# Altium schematic symbol library HidroanaSCHLib1.SchLib: 93 symbols
Pins are listed as number, name and electrical type; pins without a type are passive.

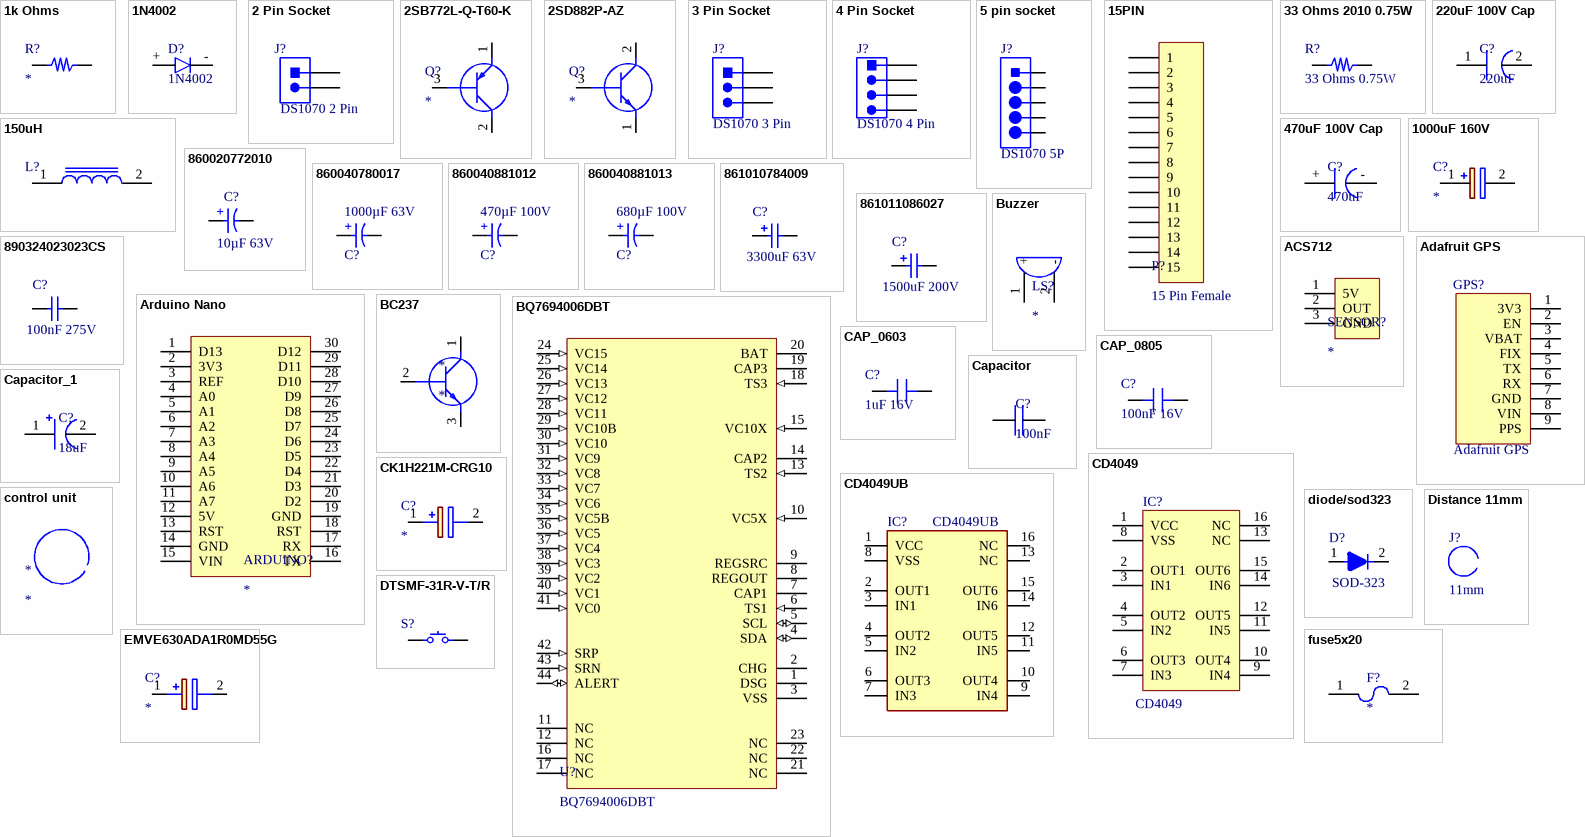
[diagram p0: symbols 1k Ohms to fuse5x20]

## 1k Ohms
designator R?
footprint 0603
pins: 1, 2

## 1N4002
designator D?
footprint 1N4002
pins: +, -

## 2 Pin Socket
designator J?, comment DS1070 2 Pin
2pin Socket 100mil
footprint 2PIN_100mil
pins: 1, 2

## 2SB772L-Q-T60-K
designator Q?
Transistor BJT PNP; Manufacturer_Name: Renesas Electronics; Manufacturer_Part_Number: 2SB772-AZ; Datasheet Link: https://docs.rs-online.com/7cfa/0900766b811ae1f4.pdf; Height: 2.8mm; Mouser Part Number: N/A; Mouser Price/Stock: https://www.mouser.co.uk/ProductDetail/Renesas-Electronics/2SB772-AZ?qs=pUKx8fyJudC3Nl1y55BjMA%3D%3D
footprint TO230P280X850X1470-3P
pins: 1 E, 2 C, 3 B

## 2SD882P-AZ
designator Q?
Transistor BJT NPN; Manufacturer_Name: Renesas Electronics; Manufacturer_Part_Number: 2SD882-AZ; Height: 2.8mm
footprint TO230P280X850X1470-3P
pins: 1 E, 2 C, 3 B

## 3 Pin Socket
designator J?, comment DS1070 3 Pin
3 Pin 100mm Connector; ComponentLink1Description: Özdisan; ComponentLink1URL: https://www.ozdisan.com/konnektor-ve-baglanti-elemanlari/konnektor-cesitleri/pcb-konnektorler/DS1070-3MVV6; Part: DS1070 3 Pin
footprint 3pin_100mil
pins: 1, 2, 3

## 4 Pin Socket
designator J?, comment DS1070 4 Pin
2pin Socket 100mil
footprint 4PIN_100MIL
pins: 1, 2, 3, 4

## 5 pin socket
designator J?, comment DS1070 5P
footprint 5PIN
pins: 1 4, 2 5, 3 6, 4 7, 5 8

## 15PIN
designator P?, comment 15 Pin Female
footprint 15PIN
pins: 1, 2, 3, 4, 5, 6, 7, 8, 9, 10, 11, 12, 13, 14, 15

## 33 Ohms 2010 0.75W
designator R?, comment 33 Ohms 0.75W
201007J0330T4E - RES.(5025) 2010 33 Ohms 5% 3/4W-S 200PPM; ComponentLink1Description: New link; ComponentLink1URL: https://www.ozdisan.com/pasif-komponentler/direncler/smt-smd-ve-cip-direncler/201007J0330T4E; Value: 33 Ohms 0.75W
footprint 2010
pins: 1, 2

## 150uH
designator L?
Inductor Iron Core Yellow-White
footprint 42X60MMTOROID
pins: 1, 2

## 220uF 100V Cap
designator C?, comment 220uF
footprint 220uF 100V Cap
pins: 1, 2

## 470uF 100V Cap
designator C?, comment 470uF
Electrolytic  Cap 470uF 100V
footprint 470uF 100V Cap
pins: +, -

## 1000uF 160V
designator C?
Capacitor Polarised; Manufacturer_Name: Aihua Group; Manufacturer_Part_Number: ELH2GM561Q60KT; Datasheet Link: https://lcsc.com/product-detail/Aluminum-Electrolytic-Capacitors-Leaded_560uF-20-400V_C106433.html; Height: 62mm
footprint CAPE-P15XD30XH62MM
pins: 1 +, 2 -

## 860020772010
designator C?, comment 10µF 63V
WCAP-ATG5 Aluminum Electrolytic Capacitor, Radial, THT, D5 x H11mm, 10µF, 63V; Manufacturer Part Number: 860020772010; Manufacturer: Wurth Elektronik; Capacitance Tolerance: +/-20%; Dissipation Factor: 9%; Endurance: 2000h; Leakage Current: 6.3µA; Ripple Current: 42mA; Technical Reference: ATDC110100M063DSPA3B000; Category: Aluminum Electrolytic Capacitors; Match Code: WCAP-ATG5; ComponentLink1Description: Website Link; ComponentLink1URL: https://www.we-online.com/redexpert/article/860020772010?ad; ComponentLink2Description: Datasheet Link; ComponentLink2URL: https://www.we-online.com/redexpert/spec/860020772010?ad; Mount: Through Hole; Operating Temperature Max: 105°C; Operating Temperature Min: -40°C; Packaging: Ammo Pack; Height: 11mm; Diameter: 5mm; Rated Voltage (DC): 63V; Capacitance: 10µF 63V
footprint WCAP-ATG5_D5H11
simulation model 860020772010_10uF
pins: 1 P, 2 N
text: +

## 860040780017
designator C?, comment 1000µF 63V
WCAP-ATUL Aluminum Electrolytic Capacitor, Radial, THT, D16 x H35.5mm, 1000µF, 63V; Manufacturer Part Number: 860040780017; Manufacturer: Wurth Elektronik; Capacitance Tolerance: 20%; Dissipation Factor: 9%; Endurance: 10000h; Leakage Current: 630µA; Ripple Current: 2500mA; Technical Reference: ATDK355102M063DSPADK000; Category: Aluminum Electrolytic Capacitors; Match Code: WCAP-ATUL; ComponentLink1Description: Website Link; ComponentLink1URL: https://www.we-online.com/redexpert/article/860040780017?ad; ComponentLink2Description: Datasheet Link; ComponentLink2URL: https://www.we-online.com/redexpert/spec/860040780017?ad; Mount: Through Hole; Operating Temperature Max: 105°C; Operating Temperature Min: -40°C; Packaging: Ammo Pack; Height: 35.5mm; Diameter: 16mm; Rated Voltage (DC): 63V; Capacitance: 1000µF 63V
footprint WCAP-ATUL_D16H35.5
simulation model 860040780017_1mF
pins: 1 P, 2 N
text: +

## 860040881012
designator C?, comment 470µF 100V
WCAP-ATUL Aluminum Electrolytic Capacitor, Radial, THT, D18 x H31.5mm, 470µF, 100V; Manufacturer Part Number: 860040881012; Manufacturer: Wurth Elektronik; Capacitance Tolerance: 20%; Dissipation Factor: 9%; Endurance: 10000h; Leakage Current: 470µA; Ripple Current: 1600mA; Technical Reference: ATDL315471M100DSPAEK000; Category: Aluminum Electrolytic Capacitors; Match Code: WCAP-ATUL; ComponentLink1Description: Website Link; ComponentLink1URL: https://www.we-online.com/redexpert/article/860040881012?ad; ComponentLink2Description: Datasheet Link; ComponentLink2URL: https://www.we-online.com/redexpert/spec/860040881012?ad; Mount: Through Hole; Operating Temperature Max: 105°C; Operating Temperature Min: -40°C; Packaging: Ammo Pack; Height: 31.5mm; Diameter: 18mm; Capacitance: 470µF 100V; Rated Voltage (DC): 100V
footprint WCAP-ATUL_D18H31.5
simulation model 860040881012_470uF
pins: 1 P, 2 N
text: +

## 860040881013
designator C?, comment 680µF 100V
WCAP-ATUL Aluminum Electrolytic Capacitor, Radial, THT, D18 x H35.5mm, 680µF, 100V; Manufacturer Part Number: 860040881013; Manufacturer: Wurth Elektronik; Capacitance Tolerance: 20%; Dissipation Factor: 9%; Endurance: 10000h; Leakage Current: 680µA; Ripple Current: 1720mA; Technical Reference: ATDL355681M100DSPAEK000; Category: Aluminum Electrolytic Capacitors; Match Code: WCAP-ATUL; ComponentLink1Description: Website Link; ComponentLink1URL: https://www.we-online.com/redexpert/article/860040881013?ad; ComponentLink2Description: Datasheet Link; ComponentLink2URL: https://www.we-online.com/redexpert/spec/860040881013?ad; Mount: Through Hole; Operating Temperature Max: 105°C; Operating Temperature Min: -40°C; Packaging: Ammo Pack; Height: 35.5mm; Diameter: 18mm; Capacitance: 680µF 100V; Rated Voltage (DC): 100V
footprint WCAP-ATUL_D18H35.5
simulation model 860040881013_680uF
pins: 1 P, 2 N
text: +

## 861010784009
designator C?, comment 3300uF 63V
WCAP-AIG8 Aluminum Electrolytic Capacitor, Snap-In, THT, D25xH30mm, 3300uF, 63V; Manufacturer Part Number: 861010784009; Manufacturer: Wurth Elektronik; Technical Reference: ANBO300332M063DSIC3B000; RatedVoltage: 63VDC; Ripple Current: 3120mA; Leakage Current: 4158uA; Dissipation Factor: 20%; Endurance: 2000h; Capacitance Tolerance: +/-20%; Capacitance: 3300uF 63V; Published Date: October 2020; Packaging: Tray; Operating Temperature: -40 to +85degC; Mounting Technology: THT; Height: 30mm; ComponentLink2Description: Datasheet; Diameter: 25mm; ComponentLink2URL: https://www.we-online.com/catalog/datasheet/861010784009.pdf; ComponentLink1URL: http://www.we-online.de; ComponentLink1Description: Manufacturer
footprint WCAP-AIG8_D25H30 (Aluminium Electrolytic Snap-In Capacitors, 25x30mm)
pins: 1 P, 2 N

## 861011086027
designator C?, comment 1500uF 200V
WCAP-AIG8 Aluminum Electrolytic Capacitor, Snap-In, THT, D35xH35mm, 1500uF, 200V; Manufacturer Part Number: 861011086027; Manufacturer: Wurth Elektronik; Technical Reference: ANAQ350152M200DSIC2B000; RatedVoltage: 200VDC; Ripple Current: 4770mA; Leakage Current: 6000uA; Dissipation Factor: 15%; Endurance: 2000h; Capacitance Tolerance: +/-20%; Capacitance: 1500uF 200V; Published Date: October 2020; Packaging: Tray; Operating Temperature: -25 to +85degC; Mounting Technology: THT; Height: 35mm; ComponentLink2Description: Datasheet; Diameter: 35mm; ComponentLink2URL: https://www.we-online.com/catalog/datasheet/861011086027.pdf; ComponentLink1URL: http://www.we-online.de; ComponentLink1Description: Manufacturer
footprint WCAP-AIG8_D35H35 (Aluminium Electrolytic Snap-In Capacitors, 35x35mm)
pins: 1 P, 2 N

## 890324023023CS
designator C?, comment 100nF 275V
WCAP-FTX2 Film Capacitor, THT, L13W7H13, 100nF, 275V; Manufacturer: Wurth Elektronik; Manufacturer Part Number: 890324023023CS; Insulation Resistance: 30000MOhm; Dissipation Factor@100kHz: 0.5%; Dissipation Factor@1kHz: 0.1%; Rated Voltage: 275VAC; Rate of Voltage Rise: 300V/us; Pitch: 10mm; Technical Reference: MX2P010104K275ACPP46004; Capacitance Tolerance: +/-10%; ComponentLink1Description: Manufacturer; ComponentLink1URL: http://www.we-online.de; ComponentLink2Description: Datasheet; ComponentLink2URL: https://www.we-online.com/catalog/datasheet/890324023023CS.pdf; Length: 13mm; Mounting Technology: THT; Operating Temperature: -40 to +105degC; Width: 7mm; Capacitance: 100nF 275V; Dissipation Factor@10kHz: 0.1%; Height: 13mm; Packaging: Carton; Published Date: May 2020
footprint WCAP-FTX2_L13W7H13 (Film Capacitors, 13x7x13mm)
pins: 1, 2

## ACS712
designator SENSOR?
footprint ACS712
pins: 1 5V, 2 OUT, 3 GND

## Adafruit GPS
designator GPS?
GPS Module
footprint AdafruitGPS
pins: 1 3V3, 2 EN, 3 VBAT, 4 FIX, 5 TX, 6 RX, 7 GND, 8 VIN, 9 PPS

## Arduino Nano
designator ARDUINO?
footprint ARDUIONO NANO
pins: 1 D13, 2 3V3, 3 REF, 4 A0, 5 A1, 6 A2, 7 A3, 8 A4, 9 A5, 10 A6, 11 A7, 12 5V, 13 RST, 14 GND, 15 VIN, 16 TX, 17 RX, 18 RST, 19 GND, 20 D2, 21 D3, 22 D4, 23 D5, 24 D6, 25 D7, 26 D8, 27 D9, 28 D10, 29 D11, 30 D12

## BC237
designator *
pins: 1 C, 2 B, 3 E

## BQ7694006DBT
designator U?
Battery Monitor for Lithium-Ion and Phosphate Battery Packs, DBT0044A; ComponentLink1Description: New link; ComponentLink1URL: *; Supplier 1: Digi-Key; Supplier 2: Mouser; Supplier Part Number 1: 296-37790-5-ND; Supplier Part Number 2: 595-BQ7694006DBT; ReferencePackageNumber: DBT0044A; PartNumber: BQ7694006DBT
footprint TSSOP44
pins: 1 DSG, 2 CHG, 3 VSS, 4 SDA (io), 5 SCL (io), 6 TS1 (in), 7 CAP1, 8 REGOUT, 9 REGSRC, 10 VC5X (in), 11 NC, 12 NC, 13 TS2 (in), 14 CAP2, 15 VC10X (in), 16 NC, 17 NC, 18 TS3 (in), 19 CAP3, 20 BAT, 21 NC, 22 NC, 23 NC, 24 VC15 (in), 25 VC14 (in), 26 VC13 (in), 27 VC12 (in), 28 VC11 (in), 29 VC10B (in), 30 VC10 (in), 31 VC9 (in), 32 VC8 (in), 33 VC7 (in), 34 VC6 (in), 35 VC5B (in), 36 VC5 (in), 37 VC4 (in), 38 VC3 (in), 39 VC2 (in), 40 VC1 (in), 41 VC0 (in), 42 SRP (in), 43 SRN (in), 44 ALERT (io)

## Buzzer
designator LS?
300mil DIP
footprint Buzzer 300Mil Pitch
pins: 1 +, 2 -

## CAP_0603
designator C?, comment 1uF 16V
CL10B105KO8NNNC - MLCC (1608) 0603 1uF 16VDC ±10% X7R; Value: 1uF 16V
footprint 0603_CAP
pins: 1, 2

## CAP_0805
designator C?, comment 100nF 16V
Value: 100nF 16V
footprint 0805_CAP
pins: 1, 2

## Capacitor
designator C?, comment 100nF
200mil Coil Pitch
footprint Cap_0.2in
pins: 1, 2

## Capacitor_1
designator C?, comment 18uF
18uF 63V
footprint Cap 18uF 63V
footprint Cap 18uF 63V
pins: 1, 2

## CD4049
designator IC?
cd4049 DIP 16
footprint CD4049 (cd4049 DIP)
pins: 1 VCC, 2 OUT1, 3 IN1, 4 OUT2, 5 IN2, 6 OUT3, 7 IN3, 8 VSS, 9 IN4, 10 OUT4, 11 IN5, 12 OUT5, 13 NC, 14 IN6, 15 OUT6, 16 NC

## CD4049UB
designator IC?
CMOS Hex Inverting Buffer and Converter; PartNumber: CD4049UB
footprint SOIC16 (R-PDSO-G16)
pins: 1 VCC, 2 OUT1, 3 IN1, 4 OUT2, 5 IN2, 6 OUT3, 7 IN3, 8 VSS, 9 IN4, 10 OUT4, 11 IN5, 12 OUT5, 13 NC, 14 IN6, 15 OUT6, 16 NC

## CK1H221M-CRG10
designator C?
Capacitor Polarised; Manufacturer_Name: SEMTECH; Manufacturer_Part_Number: CK1H221M-CRG10; Datasheet Link: https://datasheet.lcsc.com/szlcsc/1810281207_ST-Semtech-CK1H221M-CRG10_C131159.pdf; Height: 10.6mm
footprint CAPAE1030X1060N
pins: 1 +, 2 -

## control unit
designator *
footprint control unit

## diode/sod323
designator D?, comment SOD-323
footprint SOD323
pins: 1, 2 0

## Distance 11mm
designator J?, comment 11mm
footprint Distance 11mm

## DTSMF-31R-V-T/R
designator S?  (value not drawn)
DTSMF-31R-V-T/R - SWITCH TACT 6.00x3.50 4.30mm 260gF SMT V/T; ComponentLink1Description: özdisan; ComponentLink1URL: https://ozdisan.com/elektromekanik-komponentler/sivicler-ve-anahtarlar/tact-sivicler/DTSMF-31R-V-TR
footprint Button (SWITCH TACT 6.00x3.50 4.30mm 260gF SMT V/T)
pins: 1, 2

## EMVE630ADA1R0MD55G
designator C?
Capacitor Polarised; Manufacturer_Name: United Chemi-Con (UCC); Manufacturer_Part_Number: EMVE630ADA1R0MD55G; Datasheet Link: https://www.mouser.in/datasheet/2/420/United-Chemi-Con-552872.pdf; Height: 5.5mm; Mouser Part Number: 661-EMVE630ADA1R0MD5
footprint CAPAE430X550N
pins: 1 +, 2 -

## fuse5x20
designator F?
10A
footprint fuseholder5x20GREEN
pins: 1, 2

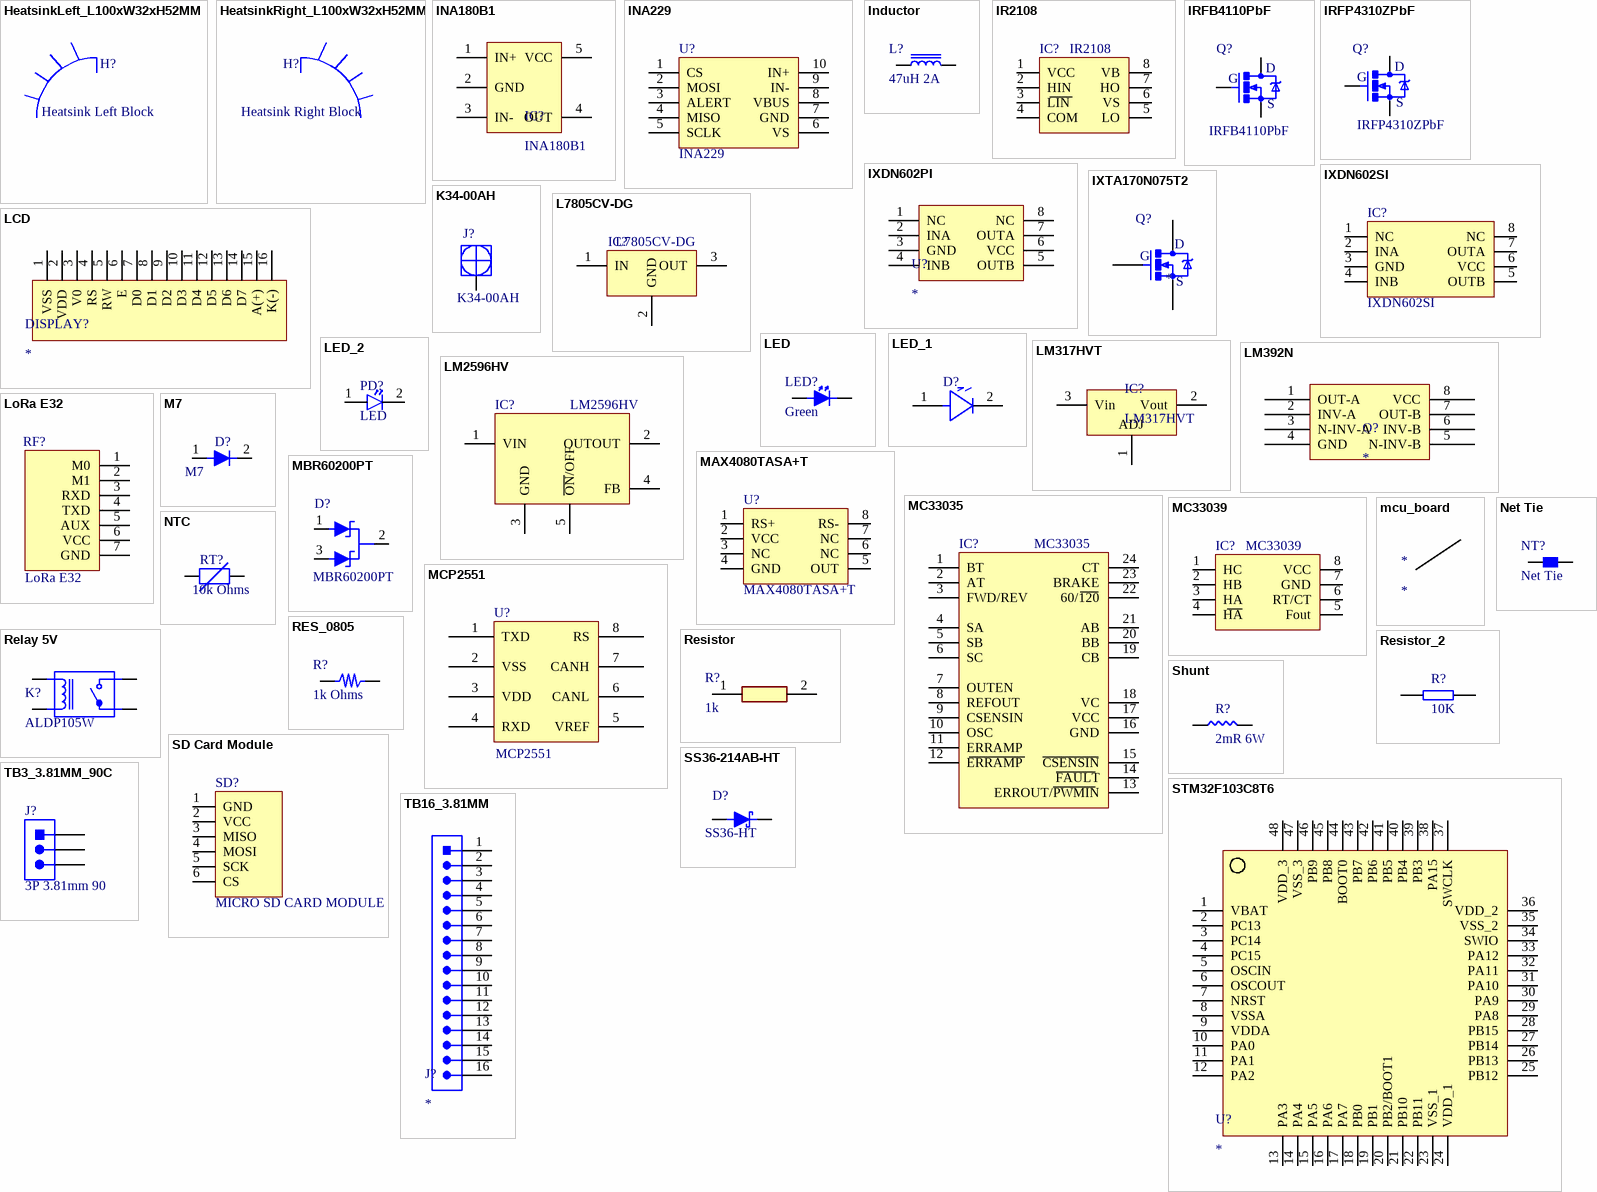
[diagram p1: symbols HeatsinkLeft_L100xW32xH52MM to TB16_3.81MM]

## HeatsinkLeft_L100xW32xH52MM
designator H?, comment Heatsink Left Block
footprint HeatsinkLeft_L100xW32xH52MM (Cooler Block)

## HeatsinkRight_L100xW32xH52MM
designator H?, comment Heatsink Right Block
footprint HeatsinkRight_L100xW32xH52MM (Cooler Block)

## INA180B1
designator IC?
Current sense amplifier
footprint SOT-23-5
pins: 1 IN+, 2 GND, 3 IN-, 4 OUT, 5 VCC

## INA229
designator U?
footprint INA229 (DGS0010A)
pins: 1 CS, 2 MOSI, 3 ALERT, 4 MISO, 5 SCLK, 6 VS, 7 GND, 8 VBUS, 9 IN-, 10 IN+

## Inductor
designator L?, comment 47uH 2A
FIXED IND 47UH 2.9A 80 MOHM SMD; Value: 47uH 2A
footprint BOURNS SRR1280
pins: 1, 2

## IR2108
designator IC?
Low-High Side MOSFET Driver; PartNumber: IR2108; ComponentLink1Description: Datasheet; ComponentLink1URL: https://www.infineon.com/dgdl/Infineon-ir2108-DS-v01_00-EN.pdf?fileId=5546d462533600a4015355c7dc321676
footprint SOIC8
pins: 1 VCC, 2 HIN, 3 LIN, 4 COM, 5 LO, 6 VS, 7 HO, 8 VB

## IRFB4110PbF
designator Q?
TO-220 90 Degree SMD; Voltage: 100V; Current: 50A; PartNumber: IRFB4110PbF; ComponentLink1Description: Özdisan; ComponentLink1URL: https://ozdisan.com/guc-yari-iletkenleri/mosfetler/discrete-mosfetler/IRFB4110PBF/365724; ComponentLink2Description: Datasheet; ComponentLink2URL: https://cdn.ozdisan.com/ETicaret_Dosya/365724_4464128.pdf
footprint TO-220-3-90
pins: 1 G, 2 D, 3 S

## IRFP4310ZPbF
designator Q?
IRFP4310ZPBF - MOSFET DIS.120A 100V N-CH TO247AC HEXFET THT; Current Rate: 120A; Voltage Rate: 100V; ComponentLink1Description: Özdisan; ComponentLink1URL: https://ozdisan.com/Product/Detail/480417/IRFP4310ZPBF; ComponentLink2Description: Datasheet; ComponentLink2URL: https://cdn.ozdisan.com/ETicaret_Dosya/480417_1248700.pdf; PartValue: IRFP4310ZPbF
footprint TO-247
pins: 1 G, 2 D, 3 S

## IXDN602PI
designator U?
footprint TL250
pins: 1 NC, 2 INA, 3 GND, 4 INB, 5 OUTB, 6 VCC, 7 OUTA, 8 NC

## IXDN602SI
designator IC?
IXDN602SI - IC-602 MOSFET DRIVER 2A DUAL LOW-SIDE SOIC8; ComponentLink1Description: Özdisan; ComponentLink1URL: https://ozdisan.com/entegre-devreler-ics/guc-entegreleri/guc-surucu-entegreleri/IXDN602SI; Datasheet: https://cdn.ozdisan.com/ETicaret_Dosya/472230_6080168.PDF; PartReference: IXDN602SI
footprint SOIC8-WITHGNDPAD (SI (8-Pin Power SOIC with Exposed Metal Back))
pins: 1 NC, 2 INA, 3 GND, 4 INB, 5 OUTB, 6 VCC, 7 OUTA, 8 NC

## IXTA170N075T2
designator Q?
MOSFET DIS.170A 75V N-CH TO263(D2PAK); Supplier 1: Future Electronics; ComponentLink1Description: Özdisan; ComponentLink1URL: https://www.ozdisan.com/Product/Detail/352635/IXTA170N075T2; Supplier Part Number 1: 7027639
footprint TO-263-3
pins: 1 G, 2 D, 3 S

## K34-00AH
designator J?
K34-00AH - TERM.BLK.12.00MM BARIYER TYPE 65A; ComponentLink1Description: Özdisan; ComponentLink1URL: https://ozdisan.com/konnektor-ve-baglanti-elemanlari/terminal-konnektorler/vida-tipi-konnektorler/K34-00AH; PartValue: K34-00AH
footprint K34-00AH
pins: 1

## L7805CV-DG
designator IC?
L7805CV-DG - IC-7805 V.REG.+5V 1.5A TO220 DOUBLE GAUGE ST; ComponentLink1Description: Özdisan; ComponentLink1URL: https://www.ozdisan.com/Product/Detail/353773/L7805CV-DG; PartValue: L7805CV-DG; ComponentLink2Description: Datasheet; ComponentLink2URL: https://cdn.ozdisan.com/ETicaret_Dosya/39226_7065362.pdf
footprint TO-220-3
pins: 1 IN, 2 GND, 3 OUT

## LCD
designator DISPLAY?
LCD16X2
footprint LCD16X2
pins: 1 VSS, 2 VDD, 3 V0, 4 RS, 5 RW, 6 E, 7 D0, 8 D1, 9 D2, 10 D3, 11 D4, 12 D5, 13 D6, 14 D7, 15 A(+), 16 K(-)

## LED
designator LED?, comment Green
0805
footprint 0805LED
pins: 1 Anode(+), 2 Cathode(-)

## LED_1
designator D?  (value not drawn)
1206 SMD LED
footprint 0805LED
pins: 1 +, 2 -

## LED_2
designator PD?, comment LED
100mil DIP LED
footprint Led_3mm
pins: 1 +, 2 -

## LM317HVT
designator IC?
Voltage Regulator
footprint TO-220-3
pins: 1 ADJ, 2 Vout, 3 Vin

## LM392N
designator O?
Op-Amp
footprint TL250
pins: 1 OUT-A, 2 INV-A, 3 N-INV-A, 4 GND, 5 N-INV-B, 6 INV-B, 7 OUT-B, 8 VCC

## LM2596HV
designator IC?
Integrated Circuit; Manufacturer_Name: Texas Instruments; Datasheet Link: http://www.ti.com/lit/ds/symlink/lm2596.pdf; PartValue: LM2596HV; Mouser Part Number: 926-LM2596S-12; Mouser Price/Stock: https://www.mouser.co.uk/ProductDetail/Texas-Instruments/LM2596S-12?qs=X1J7HmVL2ZEK1FPBBSYJCA%3D%3D; Arrow Part Number: LM2596S-12; Arrow Price/Stock: https://www.arrow.com/en/products/lm2596s-12/texas-instruments
footprint TO-263-5
pins: 1 VIN, 2 OUTOUT, 3 GND, 4 FB, 5 ~{ON}/OFF

## LoRa E32
designator RF?
footprint LoRa E32
pins: 1 M0, 2 M1, 3 RXD, 4 TXD, 5 AUX, 6 VCC, 7 GND

## M7
designator D?
M7-DC - DIODE STAND. Single 1A 1000V SMT DO214AC (SMA); PartNumber: M7; ComponentLink1Description: Datasheet; ComponentLink1URL: https://cdn.ozdisan.com/ETicaret_Dosya/339012_7315810.pdf; ComponentLink2Description: Özdisan; ComponentLink2URL: https://ozdisan.com/guc-yari-iletkenleri/diyotlar-modul-diyotlar-ve-dogrultucular/genel-amacli-diyotlar/M7-DC; Package: DO214AC (SMA)
footprint DIOM5025X220N
pins: 1, 2

## MAX4080TASA+T
designator U?
MAX4080TASA+T - IC-4080 SENSOR CURRENT 250KHZ SOIC8; ComponentLink1Description: Datasheet; ComponentLink1URL: https://datasheets.maximintegrated.com/en/ds/MAX4080-MAX4081.pdf; ComponentLink2Description: Digikey; ComponentLink2URL: https://www.digikey.com/en/products/detail/analog-devices-inc-maxim-integrated/MAX4080TASA-T/1703939?s=N4IgTCBcDaILIEEAaAWADADjQFQQZQQGpsQBdAXyA
footprint SOIC8
pins: 1 RS+, 2 VCC, 3 NC, 4 GND, 5 OUT, 6 NC, 7 NC, 8 RS-

## MBR60200PT
designator D?
MBR60200PT_T0_00001 - DIODE SCHOTTKY 2x30A 200V TO247AD; PartValue: MBR60200PT; ComponentLink1Description: Özdisan; ComponentLink1URL: https://ozdisan.com/Product/Detail/509124/MBR60200PTT000001; ComponentLink2Description: Datasheet; ComponentLink2URL: https://cdn.ozdisan.com/ETicaret_Dosya/509124_1940724.pdf; Voltage: 200V; Current: 2x30A
footprint TO-247
pins: 1, 2, 3

## MC33035
designator IC?
Brushless DC Motor Controller; ComponentLink1Description: New link; ComponentLink1URL: https://www.onsemi.com/pdf/datasheet/mc33035-d.pdf; PartNumber: MC33035
footprint SOIC-24 WB
pins: 1 BT, 2 AT, 3 FWD/REV, 4 SA, 5 SB, 6 SC, 7 OUTEN, 8 REFOUT, 9 CSENSIN, 10 OSC, 11 ERRAMP, 12 ERRAMP, 13 ERROUT/PWMIN, 14 FAULT, 15 CSENSIN, 16 GND, 17 VCC, 18 VC, 19 CB, 20 BB, 21 AB, 22 60/120, 23 BRAKE, 24 CT

## MC33039
designator IC?
Closed Loop Brushless / Motor Adapter; ComponentLink1Description: Datasheet; ComponentLink1URL: https://www.onsemi.com/pdf/datasheet/mc33039-d.pdf; PartNumber: MC33039
footprint SOIC8
pins: 1 HC, 2 HB, 3 HA, 4 HA, 5 Fout, 6 RT/CT, 7 GND, 8 VCC

## MCP2551
designator U?
footprint MCP2551/SMD
pins: 1 TXD, 2 VSS, 3 VDD, 4 RXD, 5 VREF, 6 CANL, 7 CANH, 8 RS

## mcu_board
designator *
footprint mcu

## Net Tie
designator NT?  (net tie, no BOM)
1206 size
footprint NET TIE
pins: 1, 2

## NTC
designator RT?, comment 10k Ohms
THERMISTOR NTC 10K 1%; Value: 10k Ohms
footprint 2PIN_100mil
pins: 1 +5, 2 Out

## Relay 5V
designator K?, comment ALDP105W
ALDP105W - RELAY 5A 5V 1a PANASONIC; Model: ALDP105W; ComponentLink1Description: Özdisan; ComponentLink1URL: https://ozdisan.com/elektromekanik-komponentler/roleler-ve-role-soketleri/genel-tip-roleler/ALDP105W; ComponentLink2Description: Datasheet; ComponentLink2URL: https://cdn.ozdisan.com/ETicaret_Dosya/414100_6783382.pdf
footprint ALDP105W (20.50x7.20x15.30mm(LxWxH))
pins: 1, 2, 3, 4

## RES_0805
designator R?, comment 1k Ohms
0805; Power: 1/8 W; Value: 1k Ohms
footprint 0805_RES
pins: 1, 2

## Resistor
designator R?, comment 1k
1206 SMD Resistor; Manufacturer_Name: Bourns; Manufacturer_Part_Number: CR1206-F/-2R70ELF; Datasheet Link: https://mail.qq.com/cgi-bin/loginpage?autologin=n&errtype=1&clientuin=895793657&param=&sp=&tfcont=22%20serialization%3A%3Aarchive%2010%200%200%204%200%200%200%208%20authtype%201%204%209%20clientuin%209%20895793657%206%20domain%206%20qq.com%202%20vm%203%20; Height: 0.75mm; Mouser Part Number: 652-CR1206-F/2R70ELF; Mouser Price/Stock: https://www.mouser.co.uk/ProductDetail/Bourns/CR1206-F-2R70ELF?qs=W%2FMpXkg%252BdQ43a7iNS79Iog%3D%3D
footprint RESC3216X75N
pins: 1, 2

## Resistor_2
designator R?, comment 10K
DIP 400mil
footprint RES_0.4
pins: 1, 2

## SD Card Module
designator SD?, comment MICRO SD CARD MODULE
MICRO SD CARD MODULE - ARDUINO ACCESSORY MICRO SD CARD MODULE TF CARD SPI; ComponentLink1Description: Özdisan; ComponentLink1URL: https://ozdisan.com/maker-products-and-mini-pcs/arduino/arduino-products/MICRO-SD-CARD-MODULE; ComponentLink2Description: Datasheet; ComponentLink2URL: https://cdn.ozdisan.com/ETicaret_Dosya/525772_6812555.PDF; PartValue: MICRO SD CARD MODULE
footprint SD Card (Micro SD TF Card Memory Shield Module)
pins: 1 GND, 2 VCC, 3 MISO, 4 MOSI, 5 SCK, 6 CS

## Shunt
designator R?, comment 2mR 6W
3920
footprint 3920
pins: 1, 2

## SS36-214AB-HT
designator D?, comment SS36-HT
Schottky Diode; PartNumber: SS36-HT; ComponentLink1Description: Özdisan; ComponentLink1URL: https://ozdisan.com/guc-yari-iletkenleri/diyotlar-modul-diyotlar-ve-dogrultucular/schottky-diyotlar/SS36-214AB-HT/475999; ComponentLink2Description: Datasheet; ComponentLink2URL: https://cdn.ozdisan.com/ETicaret_Dosya/475999_7494647.pdf
footprint DO-214AB
pins: 1, 2

## STM32F103C8T6
designator U?
IC-32F103 ARM 64KB FLASH MEM 48-LQFP; ComponentLink1Description: New link; ComponentLink1URL: https://ozdisan.com/entegre-devreler-ics/embedded-entegreler/mikroislemciler/STM32F103C8T6
footprint LQFP48
pins: 1 VBAT, 2 PC13, 3 PC14, 4 PC15, 5 OSCIN, 6 OSCOUT, 7 NRST, 8 VSSA, 9 VDDA, 10 PA0, 11 PA1, 12 PA2, 13 PA3, 14 PA4, 15 PA5, 16 PA6, 17 PA7, 18 PB0, 19 PB1, 20 PB2/BOOT1, 21 PB10, 22 PB11, 23 VSS_1, 24 VDD_1, 25 PB12, 26 PB13, 27 PB14, 28 PB15, 29 PA8, 30 PA9, 31 PA10, 32 PA11, 33 PA12, 34 SWIO, 35 VSS_2, 36 VDD_2, 37 SWCLK, 38 PA15, 39 PB3, 40 PB4, 41 PB5, 42 PB6, 43 PB7, 44 BOOT0, 45 PB8, 46 PB9, 47 VSS_3, 48 VDD_3

## TB3_3.81MM_90C
designator J?, comment 3P 3.81mm 90
footprint TB3_3.81_90C
pins: 1, 2, 3

## TB16_3.81MM
designator J?
16P; ComponentLink1Description: Özdisan; ComponentLink1URL: https://ozdisan.com/konnektor-ve-baglanti-elemanlari/klemensler/gecmeli-klemensler/15EDGRC-3-81-16P-14-00SH
footprint TB16_3.81mm
pins: 1 15S, 2 14S, 3 13S, 4 12S, 5 11S, 6 10S, 7 9S, 8 8S, 9 7S, 10 6S, 11 5S, 12 4S, 13 3S, 14 2S, 15 1S, 16 0S

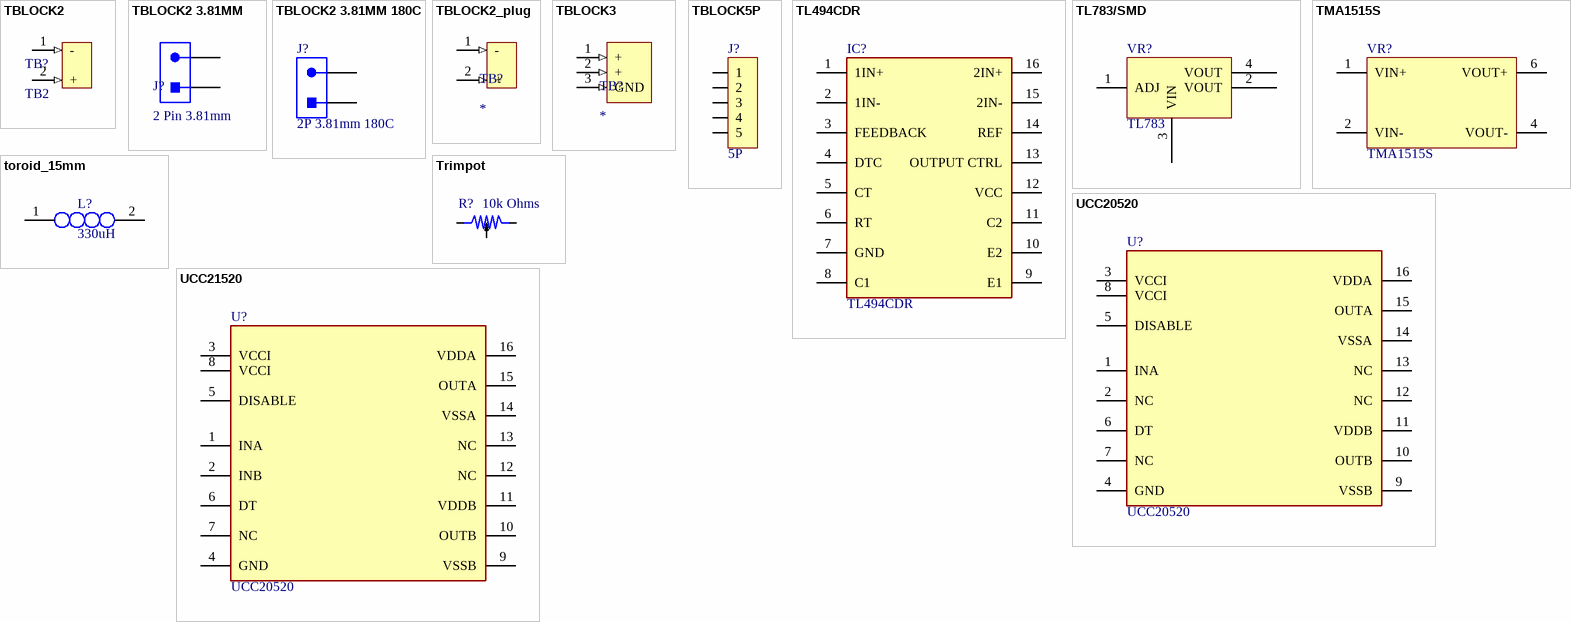
[diagram p2: symbols TBLOCK2 to UCC21520]

## TBLOCK2
designator TB?, comment TB2
5.08mm (200mil) pitch
footprint TB2
pins: 1 - (in), 2 + (in)

## TBLOCK2 3.81MM
designator J?, comment 2 Pin 3.81mm
15EDGRC-3.81-02P-11-00AH - TERM.BLK.3.81MM 2P 90C MALE GRAY CLOSED; ComponentLink1Description: Özdisan; ComponentLink1URL: https://ozdisan.com/konnektor-ve-baglanti-elemanlari/klemensler/gecmeli-klemensler/15EDGRC-3-81-02P-11-00AH
footprint TB2_3.81MM
pins: 1, 2

## TBLOCK2 3.81MM 180C
designator J?, comment 2P 3.81mm 180C
15EDGVC-3.81-02P-13-00AH; ComponentLink1Description: Özdisan; ComponentLink1URL: https://ozdisan.com/konnektor-ve-baglanti-elemanlari/klemensler/gecmeli-klemensler/15EDGVC-3-81-02P-13-00AH; ComponentLink2Description: Özdisan; ComponentLink2URL: https://ozdisan.com/konnektor-ve-baglanti-elemanlari/klemensler/gecmeli-klemensler/15EDGK-3-81-02P-15-00AH
footprint TB2_3.81MM_180 (TERM.BLK.3.81MM 2P 180C MALE BLACK CLOSED)
pins: 1, 2

## TBLOCK2_plug
designator TB?
footprint TB2_plug
pins: 1 - (in), 2 + (in)

## TBLOCK3
designator TB?
5.08mm (200mil) pitch
footprint TB3
pins: 1 + (in), 2 + (in), 3 GND (in)

## TBLOCK5P
designator J?, comment 5P
footprint TBLOCK5P
pins: 1, 2, 3, 4, 5

## TL494CDR
designator IC?
TL494CDR - IC-494 PWM CONTROLLER 42V 0.25A SO16 TI; Manufacturer_Name: Texas Instruments; Datasheet Link: http://www.ti.com/lit/gpn/tl494; Height: 1.75mm; PartNumber: TL494CDR; Mouser Part Number: 595-TL494CDR; Mouser Price/Stock: https://www.mouser.co.uk/ProductDetail/Texas-Instruments/TL494CDR?qs=dQtLEVC3WoYfDHyr4L%252BLng%3D%3D; Arrow Part Number: TL494CDR; Arrow Price/Stock: https://www.arrow.com/en/products/tl494cdr/texas-instruments
footprint SOIC16 (R-PDSO-G16)
pins: 1 1IN+, 2 1IN-, 3 FEEDBACK, 4 DTC, 5 CT, 6 RT, 7 GND, 8 C1, 9 E1, 10 E2, 11 C2, 12 VCC, 13 OUTPUT CTRL, 14 REF, 15 2IN-, 16 2IN+

## TL783/SMD
designator VR?, comment TL783
footprint TL783
pins: 1 ADJ, 2 VOUT, 3 VIN, 4 VOUT

## TMA1515S
designator VR?
footprint TMA1515S
pins: 1 VIN+, 2 VIN-, 4 VOUT-, 6 VOUT+

## toroid_15mm
designator L?, comment 330uH
footprint toroid_15mm
pins: 1, 2

## Trimpot
designator R?, comment 10k Ohms
Variable Resistor; Manufacturer_Name: Bourns; Manufacturer_Part_Number: 3296W-1-100LF; Datasheet Link: http://uk.rs-online.com/web/p/products/5219619; Mouser Part Number: 652-3296W-1-100LF; Mouser Price/Stock: https://www.mouser.co.uk/ProductDetail/Bourns/3296W-1-100LF?qs=QXsCy0sQn1AEVjRqsT9BNA%3D%3D; Arrow Part Number: 3296W-1-100LF; Arrow Price/Stock: https://www.arrow.com/en/products/3296w-1-100lf/bourns; Value: 10k Ohms
footprint 3296W (9.50x4.80x10.00mm, Rectangular)
pins: 1, 2, 3

## UCC20520
designator U?
footprint UCC20520
pins: 1 INA, 2 NC, 3 VCCI, 4 GND, 5 DISABLE, 6 DT, 7 NC, 8 VCCI, 9 VSSB, 10 OUTB, 11 VDDB, 12 NC, 13 NC, 14 VSSA, 15 OUTA, 16 VDDA

## UCC21520
designator U?, comment UCC20520
footprint UCC20520
pins: 1 INA, 2 INB, 3 VCCI, 4 GND, 5 DISABLE, 6 DT, 7 NC, 8 VCCI, 9 VSSB, 10 OUTB, 11 VDDB, 12 NC, 13 NC, 14 VSSA, 15 OUTA, 16 VDDA